# EAGLE library part 653008117322 (library WR-WTB)
WR-WTB 1.25 mm Male Horizontal Shrouded Header Material Properties Insulator Material PA9T Insulator Flammability Rating UL94 V-0 Color Ivory Contact Material Copper Alloy Contact Plating Tin Contact Type Stamped Certification UL Approval E323964 General Information Operating Temperature -40 °C up to +85 °C Compliance RoHS IR 1 A Working Voltage 125 V (AC) Withstanding Voltage 250 V (AC) Contact Resistance 20 mΩ RISO 100 MΩ Pitch 1.25 mm Gender Male Type Horizontal Packaging Properties Packaging Tube <https://www.we-online.com/components/media/o33371v209%20Multi-WR-WTB125-6530xx117322.jpg> Details see: www.we-online.com/en/components/products/WTB_1_25_MALE_HORIZONTAL_SHROUDED_HEADER_6530XX117322 <www.we-online.com/catalog/WTB_1_25_MALE_HORIZONTAL_SHROUDED_HEADER_6530XX117322/?utm_source=eagle_model&utm_medium=description_link&utm_campaign=eisos_eagle> Updated by Ella 2025-03-06 2025 (C) Würth Elektronik
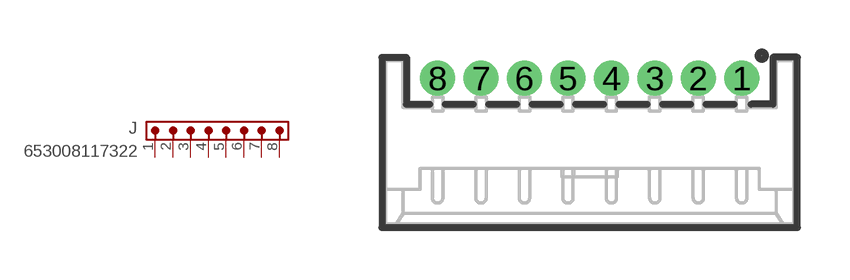
[diagram p36: symbol with the pads of 653008117322; footprint 653008117322]

Designator prefix J

## 653008117322 (CONTACT-RESISTANCE: 20mOhm; DATASHEET-URL: https://www.we-online.com/redexpert/spec/653008117322?ae; GENDER: Male; IR: 1A; L: 11.75mm; MOUNT: THT; PACKAGING: Tube; PART-NUMBER: 653008117322; PCB-CABLE-PANEL: PCB; PINS: 8; PITCH: 1.25mm; TYPE: Horizontal; VALUE: 653008117322; WORKING-VOLTAGE: 125V(AC))  [653008117322]
1  1  pas
2  2  pas
3  3  pas
4  4  pas
5  5  pas
6  6  pas
7  7  pas
8  8  pas

## Footprint 653008117322 (pad centres in mm)
WR-WTB 1.25 mm Male Horizontal Shrouded Header,8 Pins
drill 0.5 pad 0.8: 1 4.375,1.85; 2 3.125,1.85; 3 1.875,1.85; 4 0.625,1.85; 5 -0.625,1.85; 6 -1.875,1.85; 7 -3.125,1.85; 8 -4.375,1.85